# Altium footprint library SO_Test.PcbLib: 37 footprints (part 3 of 3)
Each footprint in its own frame and in the unit in brackets; x right, y up, seen from the top. Pads: shape width x height; smd on the part's side, far side on the other; paste and mask are expansions set on the pad; w line width, h text height; cw(c..) or ccw(c..) is an arc to the next point about the centre after c.
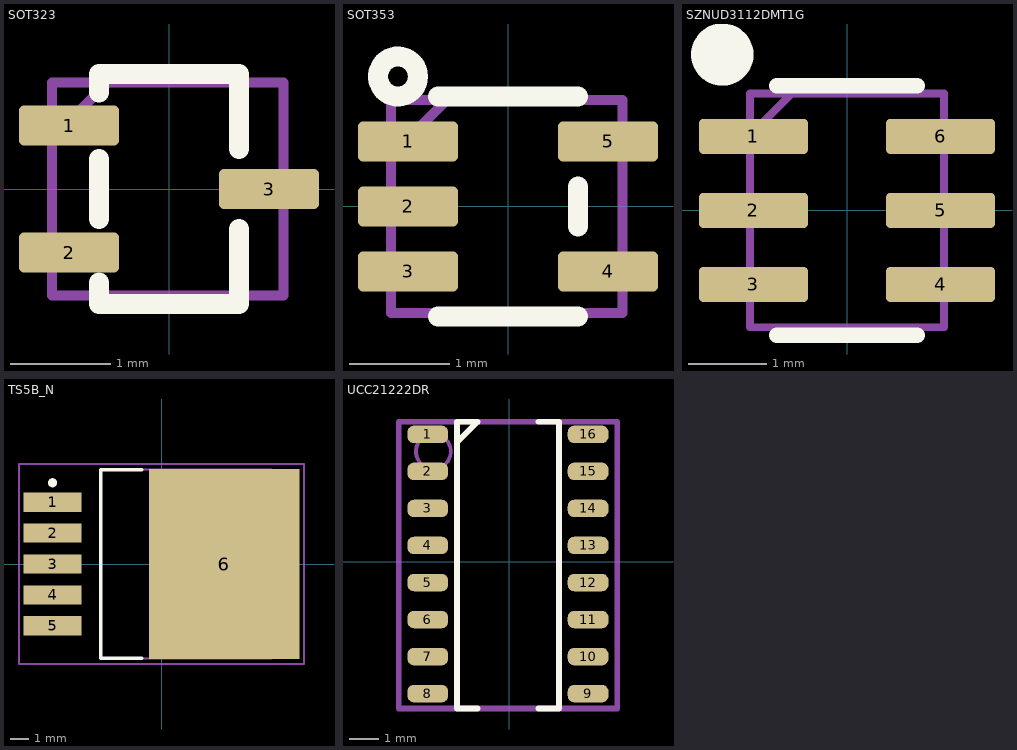
[diagram p2: the footprints below, top view; thin cyan lines are the x and y axes]

## SOT323 [mm] "SOT323, SC-70/SC70-3L, DCK, MO-203, 2X1.25mm, 1.27mm pitch"
pads (3):
  rrect25% 1x0.4 smd: 1(-1,0.635) 2(-1,-0.635) 3(1,0)
Top Overlay:
  lines w0.2: -0.7,-0.935 -0.7,-1.15 0.7,-1.15 0.7,-0.4 ; -0.7,-0.3 -0.7,0.3 ; -0.7,0.965 -0.7,1.15 0.7,1.15 0.7,0.4
Mechanical 29:
  lines w0.1: -1.168,0.508 -1.168,-1.067 1.143,-1.067 1.143,1.067 -0.61,1.067 ; -1.168,0.508 -0.61,1.067 ; -1.168,0.508 -1.168,1.067 -0.61,1.067
  text "'.Designator'" at -0.916,-0.119 h0.38
3D body "User Library-sc70-3.step": height 1, standoff 0, extent -1.15,-1.05 1.15,1.05

## SOT353 [mm] "SC-88A, SC70-5, TSSOP5, SOT-353, DCK (TI), 0.65mm pitch 2X1.3mm, 0.65mm pitch"
height 1
pads (5):
  rrect25% 1x0.4 smd mask+0.075: 1(-1,0.65) 2(-1,0) 3(-1,-0.65) 4(1,-0.65) 5(1,0.65)
Top Overlay:
  circle w0.2: c-1.1,1.3 r0.2
  lines w0.2: -0.7,-1.1 0.7,-1.1 ; -0.7,1.1 0.7,1.1 ; 0.7,-0.2 0.7,0.2
Mechanical 29:
  lines w0.1: -1.168,0.508 -1.168,1.067 -0.61,1.067 ; -1.168,0.508 -0.61,1.067 ; -1.168,0.508 -1.168,-1.067 1.143,-1.067 1.143,1.067 -0.61,1.067
  text "'.Designator'" at -0.916,-0.119 h0.38
3D body "User Library-sot353.step": height 1, standoff 0, extent -1.15,-1.05 1.15,1.05

## SZNUD3112DMT1G [mm]
height 7.62
pads (6):
  rrect25% 1.4x0.45 smd: 1(-1.2,0.95) 2(-1.2,0) 3(-1.2,-0.95) 4(1.2,-0.95) 5(1.2,0) 6(1.2,0.95)
Top Overlay:
  circle w0.4: c-1.6,2 r0.2
  lines w0.2: -0.9,-1.6 0.9,-1.6 ; -0.9,1.6 0.9,1.6
Mechanical 29:
  lines w0.1: -1.243,0.967 -1.243,1.5 -0.71,1.5 ; -0.71,1.5 -1.245,0.965 -1.245,-1.5 1.245,-1.5 1.245,1.5 -0.71,1.5
  text "'.Designator'" at -0.916,-0.119 h0.38
3D body "sot-23-6.stp": height 1.12, standoff 0.01, extent -1.423,-1.46 1.422,1.461

## TS5B_N [mm] "D2-PAK, 6-Leads, Body 8.6x10.2mm, Pitch 1.7mm, Lead Span 14.1mm, IPC Medium Density"
height 4.65
pads (6):
  rect 3.2x1.05 smd: 1(-6,3.4) 2(-6,1.7) 3(-6,0) 4(-6,-1.7) 5(-6,-3.4)
  rect 8.3x10.45 smd: 6(3.45,0)
Top Overlay:
  circle w0.25: c-6,4.475 r0.125
  lines w0.2: -1.1,-5.2 -3.35,-5.2 -3.35,5.2 -1.1,5.2
Mechanical 15:
  lines w0.1: -0.5,0 0.5,0 ; 0,-0.5 0,0.5 ; -7.85,-5.5 -7.85,5.5 7.85,5.5 7.85,-5.5 -7.85,-5.5
Mechanical 29:
  lines w0.1: -3.35,-5.2 -3.35,5.2 6.05,5.2 6.05,-5.2 -3.35,-5.2
  text "'.Designator'" at -2.489,-0.271 h1.02
3D body "D2PAK-5.step": height 4.64, standoff 0.01, extent -5.588,-5.016 5.946,5.016

## UCC21222DR [mm]
pads (16):
  rrect75% 1.4x0.6 smd: 1(-2.801,4.369) 2(-2.801,3.099) 3(-2.801,1.829) 4(-2.801,0.559) 5(-2.801,-0.711) 6(-2.801,-1.981) 7(-2.801,-3.251) 8(-2.801,-4.521) 9(2.699,-4.521) 10(2.699,-3.251) 11(2.699,-1.981) 12(2.699,-0.711) 13(2.699,0.559) 14(2.699,1.829) 15(2.699,3.099) 16(2.699,4.369)
Top Overlay:
  lines w0.2: -1.8,3.6 -1.8,4 ; -1.8,4.1 -1.1,4.8 ; -1.1,-5.029 -1.295,-5.029 -1.8,-5.029 -1.8,4.801 -1.295,4.801 -1.1,4.801 ; 1,-5.029 1.195,-5.029 1.7,-5.029 1.7,4.801 1.195,4.801 1,4.801 ; -1.1,4.8 -1.1,4.801
Mechanical 29:
  lines w0.127: -2.61,3.186 cw(c-2.61,3.783) -2.61,4.38 cw(c-2.61,3.783) -2.61,3.186
  lines w0.2: -3.8,-5.029 3.7,-5.029 3.7,4.801 -1.295,4.801 -3.8,4.801 -3.8,-5.029
  text "'.Designator'" at -0.244,2.443 h1
3D body "D0016B.stp": height 1.85, standoff 0.1, extent -2.988,-5.026 3.039,4.874